# EAGLE library part PIC16F1454 (library maxorig)
PIC16F1459 - Low cost 8-bit USB PIC microcontroller One of the only USB-capable microcontrollers available in a DIP package for beginner solderers. Keep in mind this chip has no analog peripherals. Technical specifications: VCC: 2.3-5.5V (1.8-3.6V on L series) Program space: 8 Kb RAM: 1 Kb GPIOs: 11 (includes 3 input-only pins) ADC channels: 0 DACs: 0 1 UART/LIN 1 I2C/SPI
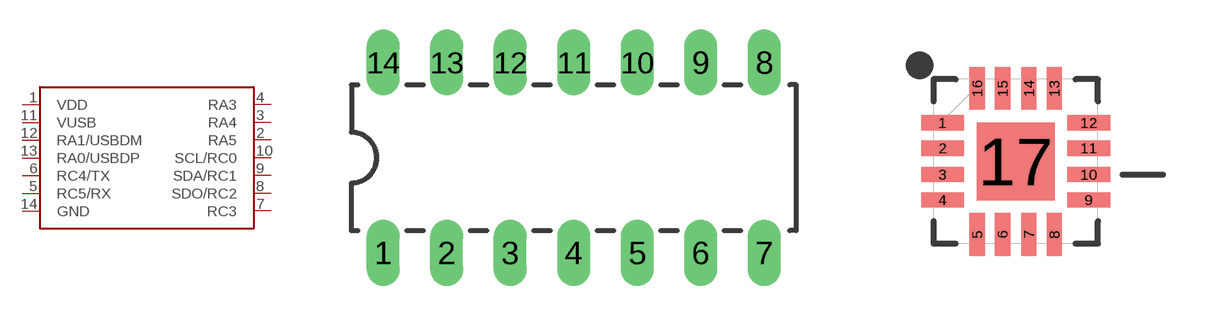
[diagram p10: symbol with the pads of DIL14; footprints DIL14, QFN16_4X4]

Designator prefix -

## PIC16F1454DIL  [DIL14]
1  VDD
2  RA5
3  RA4
4  RA3
5  RC5/RX
6  RC4/TX
7  RC3
8  SDO/RC2
9  SDA/RC1
10  SCL/RC0
11  VUSB
12  RA1/USBDM
13  RA0/USBDP
14  GND

## PIC16F1454QFN  [QFN16_4X4]
1  RA5
2  RA4
3  RA3
4  RC5/RX
5  RC4/TX
6  RC3
7  SDO/RC2
8  SDA/RC1
9  SCL/RC0
10  VUSB
11  RA1/USBDM
12  RA0/USBDP
13  GND
16  VDD

## PIC16F1454SOIC  [SOIC-14]
Pads as for DIL14

## PIC16F1454TSSOP  [TSSOP14]
Pads as for DIL14

## Footprint DIL14 (pad centres in mm)
drill 0.813 long: 1 -8.89,-3.81; 2 -6.35,-3.81; 3 -3.81,-3.81; 4 -1.27,-3.81; 5 1.27,-3.81; 6 3.81,-3.81; 7 6.35,-3.81; 8 6.35,3.81; 9 3.81,3.81; 10 1.27,3.81; 11 -1.27,3.81; 12 -3.81,3.81; 13 -6.35,3.81; 14 -8.89,3.81

## Footprint QFN16_4X4 (pad centres in mm)
smd 1.067 x 0.381: 1 -1.829,0.965; 2 -1.829,0.33; 3 -1.829,-0.33; 4 -1.829,-0.965; 9 1.829,-0.965; 10 1.829,-0.33; 11 1.829,0.33; 12 1.829,0.965
smd 0.381 x 1.067: 5 -0.965,-1.829; 6 -0.33,-1.829; 7 0.33,-1.829; 8 0.965,-1.829; 13 0.965,1.829; 14 0.33,1.829; 15 -0.33,1.829; 16 -0.965,1.829
smd 1.956 x 1.956: 17 0,0

## Footprint SOIC-14 (pad centres in mm)
smd 0.66 x 2.032: 1 -4.445,-3.315; 2 -3.175,-3.315; 3 -1.905,-3.315; 4 -0.635,-3.315; 5 0.635,-3.315; 6 1.905,-3.315; 7 3.175,-3.315; 8 3.175,3.315; 9 1.905,3.315; 10 0.635,3.315; 11 -0.635,3.315; 12 -1.905,3.315; 13 -3.175,3.315; 14 -4.445,3.315

## Footprint TSSOP14 (pad centres in mm)
Thin Shrink Small Outline Plastic 14
smd 0.305 x 0.991: 1 -1.95,-2.918; 2 -1.3,-2.918; 3 -0.65,-2.918; 4 0,-2.918; 5 0.65,-2.918; 6 1.3,-2.918; 7 1.95,-2.918; 8 1.95,2.918; 9 1.3,2.918; 10 0.65,2.918; 11 0,2.918; 12 -0.65,2.918; 13 -1.3,2.918; 14 -1.95,2.918